# EAGLE library part UVQ-24/4.5-D24P-C (library murata)
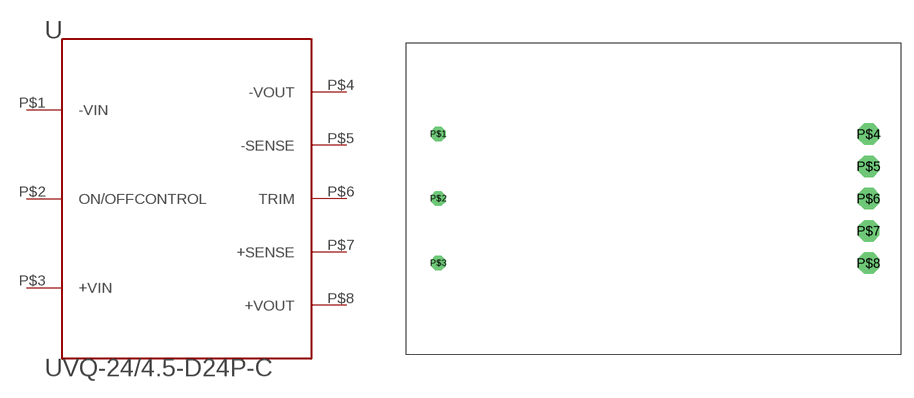
[diagram p0: symbol with the pads of UVQ-24/4.5-D24P-C; footprint UVQ-24/4.5-D24P-C]

Designator prefix -

## UVQ-24/4.5-D24P-C  [UVQ-24/4.5-D24P-C]
P$1  -VIN
P$2  ON/OFFCONTROL
P$3  +VIN
P$4  -VOUT
P$5  -SENSE
P$6  TRIM
P$7  +SENSE
P$8  +VOUT

## Footprint UVQ-24/4.5-D24P-C (pad centres in mm)
drill 1.143 octagon: P$1 -25.4,7.62; P$2 -25.4,0; P$3 -25.4,-7.62
drill 1.702 octagon: P$4 25.4,7.62; P$5 25.4,3.81; P$6 25.4,0; P$7 25.4,-3.81; P$8 25.4,-7.62